# EAGLE library part PCF85363ATT (library Conservify)
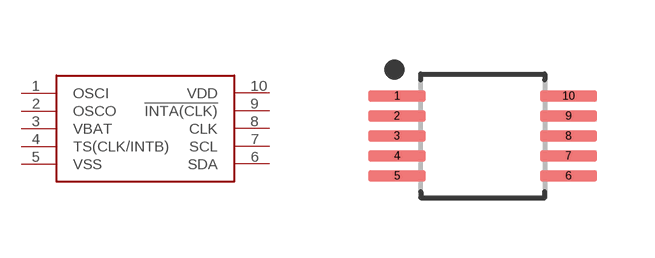
[diagram p2: symbol with the pads of SOP50P490X110-10; footprint SOP50P490X110-10]

Designator prefix -

## PCF85363ATT  [SOP50P490X110-10]
1  OSCI
2  OSCO
3  VBAT
4  TS(CLK/INTB)
5  VSS
6  SDA
7  SCL
8  CLK
9  !INTA(CLK)
10  VDD

## Footprint SOP50P490X110-10 (pad centres in mm)
10-SOP, 0.50 mm pitch, 4.90 mm span, 3.00 X 3.00 X 1.10 mm body 10-pin SOP package with 0.50 mm pitch, 4.90 mm span with body size 3.00 X 3.00 X 1.10 mm
smd 1.438 x 0.297: 1 -2.145,1; 2 -2.145,0.5; 3 -2.145,0; 4 -2.145,-0.5; 5 -2.145,-1; 6 2.145,-1; 7 2.145,-0.5; 8 2.145,0; 9 2.145,0.5; 10 2.145,1